# Altium footprint library PIN HEADERS.PcbLib: 11 footprints
Each footprint in its own frame and in the unit in brackets; x right, y up, seen from the top. Pads: shape width x height; smd on the part's side, far side on the other; paste and mask are expansions set on the pad; w line width, h text height; cw(c..) or ccw(c..) is an arc to the next point about the centre after c.
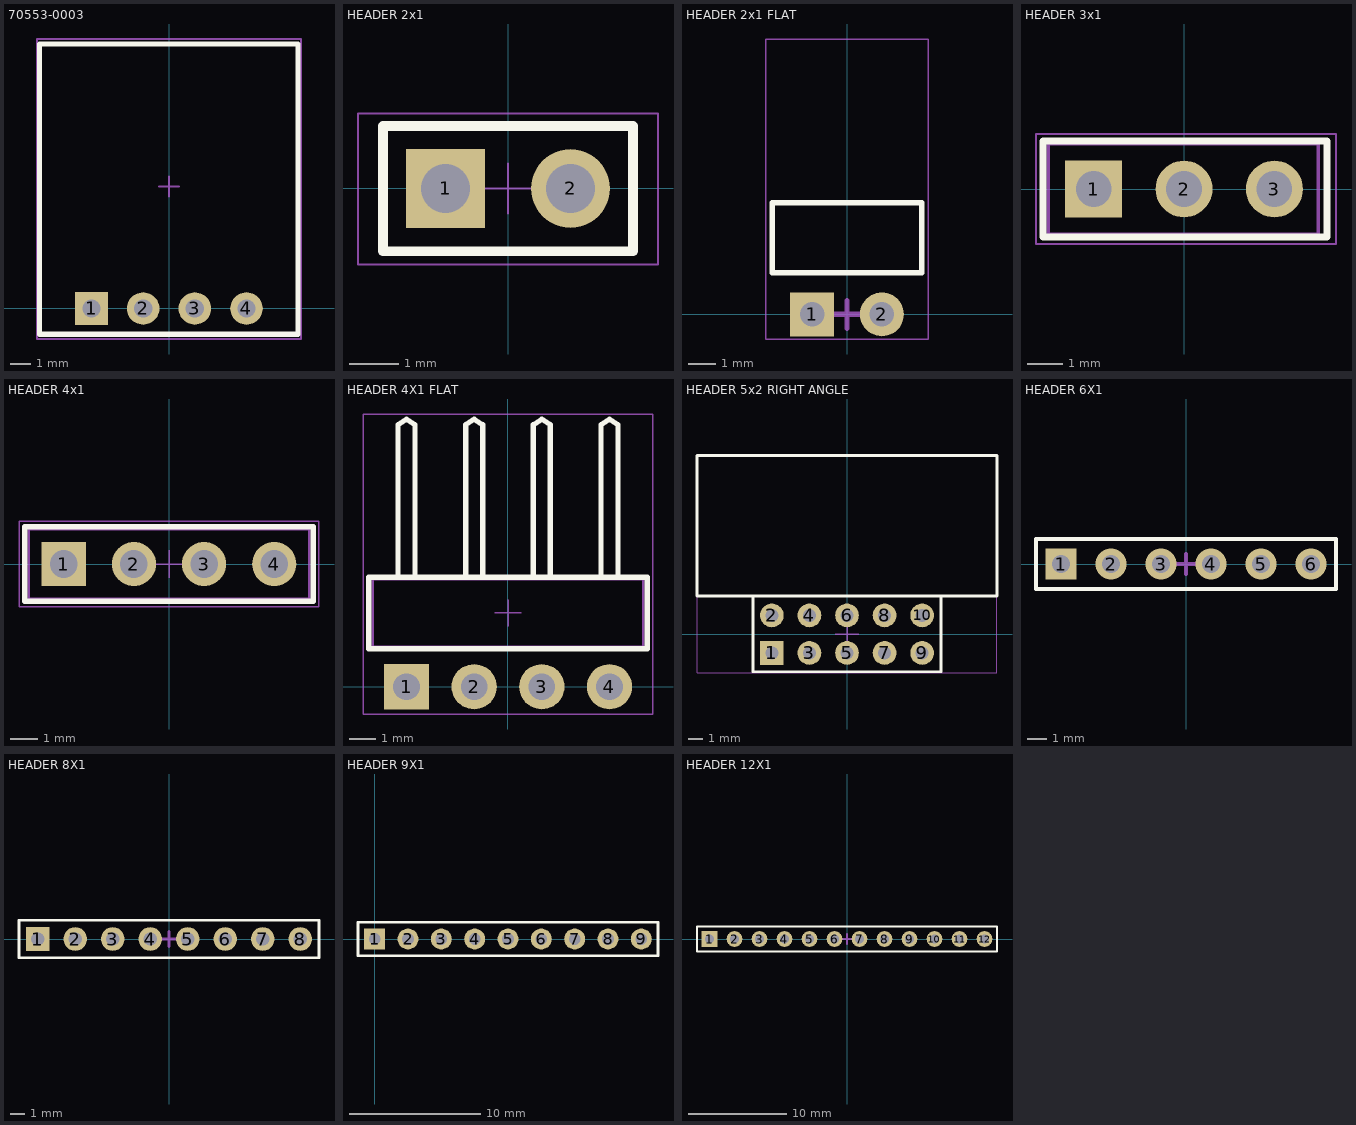
[diagram p0: the footprints below, top view; thin cyan lines are the x and y axes]

## 70553-0003 [mm] "MOLEX"
pads (4):
  rect 1.6x1.6 hole 0.9 mask+0.05: 1(-3.81,0)
  round 1.6 hole 0.9 mask+0.05: 2(-1.27,0) 3(1.27,0) 4(3.81,0)
Top Overlay:
  lines w0.254: -6.36,-1.27 -6.36,13 6.35,13 6.35,-1.27 -6.36,-1.27
Top 3D Body:
  circle w0.1: c-3.81,0 r0.75
  circle w0.1: c-3.81,0 r0.508
  lines w0.1: -6.36,-1.27 -6.36,13 6.35,13 6.35,-1.27 -6.36,-1.27
Top Courtyard:
  lines w0.1: -6.5,-1.5 -6.5,13.25 6.5,13.25 6.5,-1.5 -6.5,-1.5
Top Component Center:
  lines w0.1: -0.5,6 0.5,6 ; 0,5.5 0,6.5
3D body "705530003.stp": height 6.96, standoff -3.32, extent -6.35,-0.724 6.35,12.865

## HEADER 2x1 [mm] "Pin Header, pitch 2.54 mm, THT, Vertical, single row, 2p"
height 8.54
pads (2):
  rect 1.6x1.6 hole 1 mask+0.05: 1(-1.27,0)
  round 1.6 hole 1 mask+0.05: 2(1.27,0)
Top Overlay:
  lines w0.2: -2.54,-1.274 -2.54,1.27 2.54,1.27 2.54,-1.274 -2.54,-1.274
Top Assembly:
  lines w0.1: -2.54,-1.27 2.54,-1.27 2.54,1.27 -2.54,1.27 -2.54,-1.27
Top Courtyard:
  lines w0.05: -3.048,-1.545 3.048,-1.545 3.048,1.524 -3.048,1.524 -3.048,-1.545
Top Component Center:
  lines w0.05: -0.5,0 0.5,0 ; 0,-0.5 0,0.5

## HEADER 2x1 FLAT [mm] ".025 SQ Post Terminal Strip Assembly, 1x2 Pins, Right Angle, 2.54mm Pitch, Male"
height 3.02
pads (2):
  rect 1.6x1.6 hole 0.9: 1(-1.27,0)
  round 1.6 hole 0.9: 2(1.27,0)
Top Overlay:
  lines w0.2: -2.73,1.52 2.73,1.52 2.73,4.06 -2.73,4.06 -2.73,1.52
Top 3D Body:
  lines w0.1: -2.73,1.52 2.73,1.52 2.73,4.06 -2.73,4.06 -2.73,1.52
Top Courtyard:
  lines w0.05: -2.955,-0.9 2.955,-0.9 2.955,10.025 -2.955,10.025 -2.955,-0.9
Top Component Center:
  lines w0.2: -0.5,0 0.5,0 ; 0,-0.5 0,0.5
3D body "TSW-102-08-X-S-RA.step": height 3.05, standoff -2.29, extent -2.54,-0.323 2.54,9.9

## HEADER 3x1 [mm]
pads (3):
  rect 1.6x1.6 hole 1: 1(-2.54,0)
  round 1.6 hole 1: 2(0,0) 3(2.54,0)
Top Overlay:
  lines w0.2: -3.96,-1.345 -3.96,1.345 4.02,1.345 4.02,-1.345 -3.96,-1.345
Top Assembly:
  lines w0.1: -3.81,-1.27 3.77,-1.27 3.77,1.27 -3.81,1.27 -3.81,-1.27
Top Courtyard:
  lines w0.05: -4.16,-1.545 4.27,-1.545 4.27,1.545 -4.16,1.545 -4.16,-1.545
Top Component Center:
  lines w0.05: -0.5,0 0.5,0 ; 0,-0.5 0,0.5

## HEADER 4x1 [mm] "Pin Header, pitch 2.54 mm, THT, Vertical, single row, 4p"
height 8.54
pads (4):
  rect 1.6x1.6 hole 1: 1(-3.81,0)
  round 1.6 hole 1: 2(-1.27,0) 3(1.27,0) 4(3.81,0)
Top Overlay:
  lines w0.2: -5.23,-1.345 -5.23,1.345 5.23,1.345 5.23,-1.345 -5.23,-1.345
Top Assembly:
  lines w0.1: -5.08,-1.27 5.08,-1.27 5.08,1.27 -5.08,1.27 -5.08,-1.27
Top Courtyard:
  lines w0.05: -5.43,-1.545 5.43,-1.545 5.43,1.545 -5.43,1.545 -5.43,-1.545
Top Component Center:
  lines w0.05: -0.5,0 0.5,0 ; 0,-0.5 0,0.5
3D body "61300411121.stp": height 8.57, standoff -2.97, extent -5.08,-1.27 5.08,1.27

## HEADER 4X1 FLAT [mm]
pads (4):
  rect 1.7x1.7 hole 1: 1(-3.81,0)
  round 1.7 hole 1: 2(-1.27,0) 3(1.27,0) 4(3.81,0)
Top Overlay:
  lines w0.2: -4.13,4.115 -4.13,9.84 -3.81,10.04 -3.49,9.84 -3.49,4.115 ; -1.59,4.115 -1.59,9.84 -1.27,10.04 -0.95,9.84 -0.95,4.115 ; 0.95,4.115 0.95,9.84 1.27,10.04 1.59,9.84 1.59,4.115 ; 3.49,4.115 3.49,9.84 3.81,10.04 4.13,9.84 4.13,4.115 ; -5.23,1.425 5.23,1.425 5.23,4.115 -5.23,4.115 -5.23,1.425
Bottom Assembly:
  lines w0.1: -4.13,4.04 -4.13,9.84 -3.81,10.04 -3.49,9.84 -3.49,4.04 ; -1.59,4.04 -1.59,9.84 -1.27,10.04 -0.95,9.84 -0.95,4.04 ; 0.95,4.04 0.95,9.84 1.27,10.04 1.59,9.84 1.59,4.04 ; 3.49,4.04 3.49,9.84 3.81,10.04 4.13,9.84 4.13,4.04 ; -5.08,1.5 -5.08,4.04 5.08,4.04 5.08,1.5 -5.08,1.5
Top Courtyard:
  lines w0.05: -5.43,-1.025 -5.43,10.24 5.43,10.24 5.43,-1.025 -5.43,-1.025
Top Component Center:
  lines w0.05: -0.5,2.77 0.5,2.77 ; 0,2.27 0,3.27
3D body "61300411021.stp": height 2.58, standoff -2.96, extent -5.08,-0.32 5.08,10.04

## HEADER 5x2 RIGHT ANGLE [mm] "BH-10R, DS1013-10R, IDC-10MR"
pads (10):
  rect 1.6x1.6 hole 0.9 mask+0.05: 1(-5.08,-1.27)
  round 1.6 hole 0.9 mask+0.05: 2(-5.08,1.27) 3(-2.54,-1.27) 4(-2.54,1.27) 5(0,-1.27) 6(0,1.27) 7(2.54,-1.27) 8(2.54,1.27) 9(5.08,-1.27) 10(5.08,1.27)
Top Overlay:
  lines w0.2: -6.35,2.54 -6.35,-2.54 6.35,-2.54 6.35,2.54 ; -10.15,2.6 -10.15,12.1 10.15,12.1 10.15,2.6 -10.15,2.6
Top Assembly:
  lines w0.1: -6.35,2.54 -6.35,-2.54 6.35,-2.54 6.35,2.54 ; -10.15,2.6 10.15,2.6 10.15,12.1 -10.15,12.1 -10.15,2.6
Top Courtyard:
  lines w0.05: -10.15,-2.6 -10.15,12.1 10.15,12.1 10.15,-2.6 -10.15,-2.6
Top Component Center:
  lines w0.1: -0.8,0 0.8,0 ; 0,-0.8 0,0.8
3D body "BH-10R.STEP": height 8.6, standoff -3.3, extent -10.15,-1.57 10.15,11.99

## HEADER 6X1 [mm] "Connector; Header; 6 Position"
height 0.89
pads (6):
  rect 1.6x1.6 hole 0.9 mask+0.05: 1(-6.35,0)
  round 1.6 hole 0.9 mask+0.05: 2(-3.81,0) 3(-1.27,0) 4(1.27,0) 5(3.81,0) 6(6.35,0)
Top Overlay:
  lines w0.2: -7.62,-1.27 -7.62,1.27 7.62,1.27 7.62,-1.27 -7.62,-1.27
Top Component Center:
  lines w0.2: -0.5,0 0.5,0 ; 0,-0.5 0,0.5

## HEADER 8X1 [mm] "Connector; Header; 8 Position"
height 0.89
pads (8):
  rect 1.6x1.6 hole 0.9 mask+0.05: 1(-8.89,0)
  round 1.6 hole 0.9 mask+0.05: 2(-6.35,0) 3(-3.81,0) 4(-1.27,0) 5(1.27,0) 6(3.81,0) 7(6.35,0) 8(8.89,0)
Top Overlay:
  lines w0.2: -10.16,-1.27 -10.16,1.27 10.16,1.27 10.16,-1.27 -10.16,-1.27
Top Component Center:
  lines w0.2: -0.5,0 0.5,0 ; 0,-0.5 0,0.5

## HEADER 9X1 [mm] "Connector; Header; 9 Position"
height 0.89
pads (9):
  rect 1.6x1.6 hole 0.9 mask+0.05: 1(0,0)
  round 1.6 hole 0.9 mask+0.05: 2(2.54,0) 3(5.08,0) 4(7.62,0) 5(10.16,0) 6(12.7,0) 7(15.24,0) 8(17.78,0) 9(20.32,0)
Top Overlay:
  lines w0.2: -1.27,-1.27 -1.27,1.27 21.59,1.27 21.59,-1.27 -1.27,-1.27

## HEADER 12X1 [mm] "Connector; Header; 6 Position"
height 0.89
pads (12):
  rect 1.6x1.6 hole 0.9 mask+0.05: 1(-13.97,0)
  round 1.6 hole 0.9 mask+0.05: 2(-11.43,0) 3(-8.89,0) 4(-6.35,0) 5(-3.81,0) 6(-1.27,0) 7(1.27,0) 8(3.81,0) 9(6.35,0) 10(8.89,0) 11(11.43,0) 12(13.97,0)
Top Overlay:
  lines w0.2: -15.24,-1.27 0,-1.27 15.24,-1.27 15.24,1.27 0,1.27 -15.24,1.27 -15.24,-1.27
Top Component Center:
  lines w0.2: -0.5,0 0.5,0 ; 0,-0.5 0,0.5